# Altium footprint library MolexConnectors.PcbLib: 12 footprints
Each footprint in its own frame and in the unit in brackets; x right, y up, seen from the top. Pads: shape width x height; smd on the part's side, far side on the other; paste and mask are expansions set on the pad; w line width, h text height; cw(c..) or ccw(c..) is an arc to the next point about the centre after c.
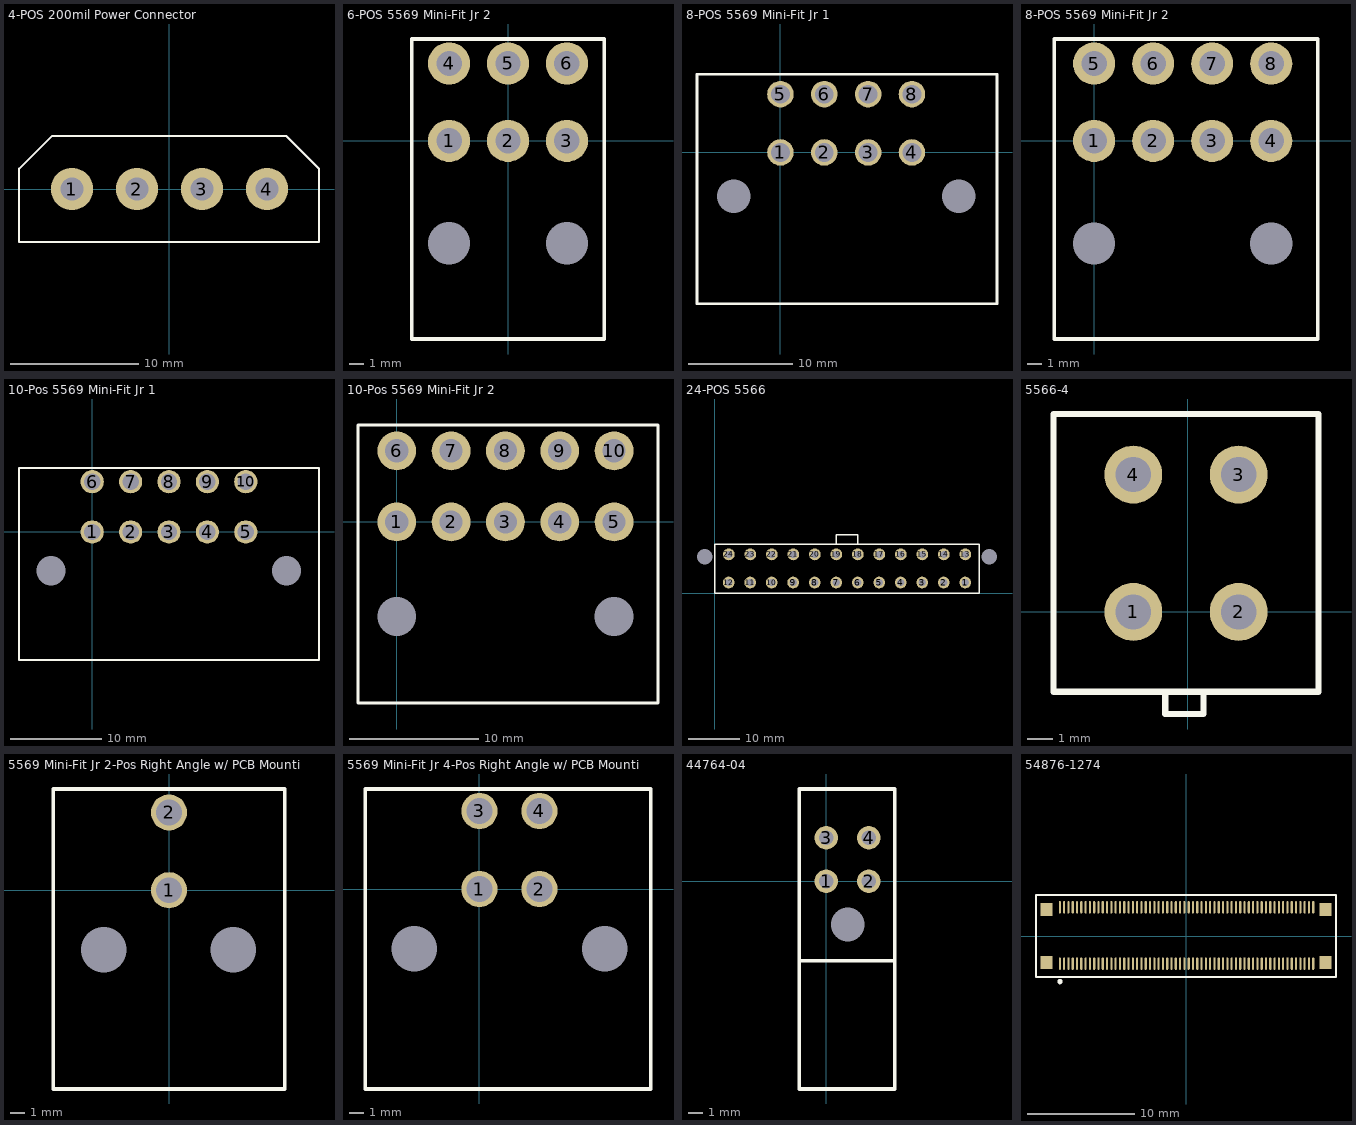
[diagram p0: the footprints below, top view; thin cyan lines are the x and y axes]

## 4-POS 200mil Power Connector [mil]
pads (4):
  round 130 hole 70: 1(-299,0) 2(-99,0) 3(101,0) 4(301,0)
Top Overlay:
  lines w6: -462,63 -462,-163 461,-163 461,63 ; -461,63 -361,163 ; 461,50 461,63 ; -361,163 361,163 ; -361,163 361,163 ; 361,163 461,63
3D body: height 404.33, standoff -83.46, extent -462,-161 460.83,164.98

## 6-POS 5569 Mini-Fit Jr 2 [mm] "Right Angle w/ Press-Fit Pegs"
pads (8):
  round 3 hole 1.8: 1(-4.191,0) 2(0,0) 3(4.191,0) 4(-4.191,5.512) 5(0,5.512) 6(4.191,5.512)
  round 0 hole 3 unplated: ""(-4.191,-7.29) ""(4.191,-7.29)
Top Overlay:
  lines w0.254: -6.858,-14.1 6.858,-14.1 6.858,7.25 -6.858,7.25 -6.858,-14.1
3D body: height 11.4, standoff -3.6, extent -6.883,-14.046 7.317,5.889

## 8-POS 5569 Mini-Fit Jr 1 [mm] "Right Angle w/ PCB Mounting Flange"
pads (10):
  round 2.54 hole 1.8 unplated: 1(0,0) 2(4.2,0) 3(8.4,0) 4(12.6,0) 5(0,5.588) 6(4.2,5.588) 7(8.4,5.588) 8(12.6,5.588)
  round 0 hole 3.2 unplated: ""(-4.475,-4.2) ""(17.1,-4.2)
Top Overlay:
  lines w0.254: -8,-14.5 -8,7.5 20.75,7.5 20.75,-14.5 -8,-14.5
3D body: height 11.4, standoff -3.5, extent -7.65,-13.925 20.35,5.975

## 8-POS 5569 Mini-Fit Jr 2 [mm] "Right Angle w/ Press-Fit Pegs"
pads (10):
  round 3 hole 1.8: 1(0,0) 2(4.2,0) 3(8.4,0) 4(12.6,0) 5(0,5.5) 6(4.2,5.5) 7(8.4,5.5) 8(12.6,5.5)
  round 0 hole 3 unplated: ""(0,-7.3) ""(12.6,-7.3)
Top Overlay:
  lines w0.254: -2.825,-14.1 -2.825,7.25 15.9,7.25 15.9,-14.1 -2.825,-14.1
3D body: height 11.4, standoff -3.6, extent -2.65,-13.95 15.75,5.985

## 10-Pos 5569 Mini-Fit Jr 1 [mm] "Right Angle w/ PCB Mounting Flange"
pads (12):
  round 2.54 hole 1.8 unplated: 1(0,0) 2(4.2,0) 3(8.4,0) 4(12.6,0) 5(16.8,0) 6(0,5.5) 7(4.2,5.5) 8(8.4,5.5) 9(12.6,5.5) 10(16.8,5.5)
  round 0 hole 3.2 unplated: ""(-4.5,-4.25) ""(21.25,-4.25)
Top Overlay:
  lines w0.254: -8,-14 24.8,-14 24.8,7 -8,7 -8,-14
3D body: height 11.4, standoff -3.5, extent -7.7,-13.85 24.5,6.05

## 10-Pos 5569 Mini-Fit Jr 2 [mm] "Right Angle w/ Press-Fit Pegs"
pads (12):
  round 3 hole 1.8: 1(0,0) 2(4.2,0) 3(8.4,0) 4(12.6,0) 5(16.8,0) 6(0,5.5) 7(4.2,5.5) 8(8.4,5.5) 9(12.6,5.5) 10(16.8,5.5)
  round 0 hole 3 unplated: ""(0,-7.3) ""(16.8,-7.3)
Top Overlay:
  lines w0.254: -3,-14 20.2,-14 20.2,7.5 -3,7.5 -3,-14
3D body: height 11.4, standoff -3.6, extent -2.7,-13.868 19.9,6.067

## 24-POS 5566 [mm]
pads (26):
  round 0 hole 3: 0(-2,7.09) 0(53.6,7.09)
  round 2.3 hole 1.4: 1(48.892,2.057) 2(44.692,2.057) 3(40.492,2.057) 4(36.292,2.057) 5(32.092,2.057) 6(27.892,2.057) 7(23.692,2.057) 8(19.492,2.057) 9(15.292,2.057) 10(11.092,2.057) 11(6.892,2.057) 12(2.692,2.057) 13(48.915,7.55) 14(44.715,7.55) 15(40.515,7.55) 16(36.315,7.55) 17(32.115,7.55) 18(27.915,7.55) 19(23.715,7.55) 20(19.515,7.55) 21(15.315,7.55) 22(11.115,7.55) 23(6.915,7.55) 24(2.715,7.55)
Top Overlay:
  lines w0.254: 23.673,9.576 23.673,11.354 27.94,11.354 27.94,9.576 ; 0,0 0,9.576 51.638,9.576 51.638,0 0,0
3D body: height 12.8, standoff -3.5, extent -2.968,-0.152 54.632,10.948

## 5566-4 [mm]
pads (4):
  round 2.3 hole 1.4: 1(-2.159,0) 2(2.032,0) 3(2.032,5.461) 4(-2.159,5.461)
Top Overlay:
  lines w0.254: -0.889,-3.175 -0.889,-4.064 0.635,-4.064 0.635,-3.302 ; -5.334,-3.175 -5.334,7.874 5.207,7.874 5.207,-3.175 -5.334,-3.175
3D body: height 12.8, standoff -3.5, extent -5.334,-3.253 5.066,7.747

## 5569 Mini-Fit Jr 2-Pos Right Angle w/ PCB Mounting Flange [mm] "4.20mm (.165\") Pitch Mini-Fit Jr.™ Header, Dual Row, Right Angle, with PCB Mounting Flange, 2 Circuits, PA Polyamide Nylon 6/6 94V-0, Tin (Sn) Plating"
pads (4):
  round 2.54 hole 1.8 unplated: 1(0,0) 2(0,5.461)
  round 0 hole 3.2 unplated: ""(-4.572,-4.191) ""(4.5,-4.2)
Top Overlay:
  lines w0.254: -8.128,-13.97 8.128,-13.97 8.128,7.112 -8.128,7.112 -8.128,-13.97
3D body: height 11.4, standoff -3.5, extent -7.675,-13.95 7.725,5.95

## 5569 Mini-Fit Jr 4-Pos Right Angle w/ PCB Mounting Flange [mm] "4.20mm (.165\") Pitch Mini-Fit Jr.™ Header, Dual Row, Right Angle, with PCB Mounting Flange, 4 Circuits, PA Polyamide Nylon 6/6 94V-0, Tin (Sn) Plating"
pads (6):
  round 2.54 hole 1.8 unplated: 1(0,0) 2(4.2,0) 3(0,5.461) 4(4.2,5.461)
  round 0 hole 3.2 unplated: ""(-4.572,-4.191) ""(8.763,-4.191)
Top Overlay:
  lines w0.254: -8,-14 12,-14 12,7 -8,7 -8,-14
3D body: height 11.4, standoff -3.5, extent -7.768,-13.931 11.832,5.969

## 44764-04 [mil] "3.00mm (.118\") Pitch Micro-Fit 3.0, BMI (TM) Receptacle Header, Dual Row, Right Angle, with Press-fit Plastic Pegs, 2.54µm (100µ\") Tin (Sn), 4 Circuits"
pads (5):
  round 65 hole 40: 1(0,0) 2(118,0) 3(0,120) 4(118,120)
  round 0 hole 93 unplated: ""(60,-120)
Top Overlay:
  lines w10: -75,-220 190,-220 ; -75,-575 -75,255 190,255 190,-575 -75,-575
3D body: height 406.72, standoff -146.28, extent -74,-573 190,253

## 54876-1274 [mm] "120-Pin (.016\") Pitch Board-to-Board SlimStack(TM) Receptacle"
pads (124):
  oval 0.2x1.15 smd: 1(-11.75,-2.575) 2(-11.35,-2.575) 3(-10.95,-2.575) 4(-10.55,-2.575) 5(-10.15,-2.575) 6(-9.75,-2.575) 7(-9.35,-2.575) 8(-8.95,-2.575) 9(-8.55,-2.575) 10(-8.15,-2.575) 11(-7.75,-2.575) 12(-7.35,-2.575) 13(-6.95,-2.575) 14(-6.55,-2.575) 15(-6.15,-2.575) 16(-5.75,-2.575) 17(-5.35,-2.575) 18(-4.95,-2.575) 19(-4.55,-2.575) 20(-4.15,-2.575) 21(-3.75,-2.575) 22(-3.35,-2.575) 23(-2.95,-2.575) 24(-2.55,-2.575) 25(-2.15,-2.575) 26(-1.75,-2.575) 27(-1.35,-2.575) 28(-0.95,-2.575) 29(-0.55,-2.575) 30(-0.15,-2.575) 31(0.25,-2.575) 32(0.65,-2.575) 33(1.05,-2.575) 34(1.45,-2.575) 35(1.85,-2.575) 36(2.25,-2.575) 37(2.65,-2.575) 38(3.05,-2.575) 39(3.45,-2.575) 40(3.85,-2.575) 41(4.25,-2.575) 42(4.65,-2.575) 43(5.05,-2.575) 44(5.45,-2.575) 45(5.85,-2.575) 46(6.25,-2.575) 47(6.65,-2.575) 48(7.05,-2.575) 49(7.45,-2.575) 50(7.85,-2.575) 51(8.25,-2.575) 52(8.65,-2.575) 53(9.05,-2.575) 54(9.45,-2.575) 55(9.85,-2.575) 56(10.25,-2.575) 57(10.65,-2.575) 58(11.05,-2.575) 59(11.45,-2.575) 60(11.85,-2.575) 61(11.85,2.675) 62(11.45,2.675) 63(11.05,2.675) 64(10.65,2.675) 65(10.25,2.675) 66(9.85,2.675) 67(9.45,2.675) 68(9.05,2.675) 69(8.65,2.675) 70(8.25,2.675) 71(7.85,2.675) 72(7.45,2.675) 73(7.05,2.675) 74(6.65,2.675) 75(6.25,2.675) 76(5.85,2.675) 77(5.45,2.675) 78(5.05,2.675) 79(4.65,2.675) 80(4.25,2.675) 81(3.85,2.675) 82(3.45,2.675) 83(3.05,2.675) 84(2.65,2.675) 85(2.25,2.675) 86(1.85,2.675) 87(1.45,2.675) 88(1.05,2.675) 89(0.65,2.675) 90(0.25,2.675) 91(-0.15,2.675) 92(-0.55,2.675) 93(-0.95,2.675) 94(-1.35,2.675) 95(-1.75,2.675) 96(-2.15,2.675) 97(-2.55,2.675) 98(-2.95,2.675) 99(-3.35,2.675) 100(-3.75,2.675) 101(-4.15,2.675) 102(-4.55,2.675) 103(-4.95,2.675) 104(-5.35,2.675) 105(-5.75,2.675) 106(-6.15,2.675) 107(-6.55,2.675) 108(-6.95,2.675) 109(-7.35,2.675) 110(-7.75,2.675) 111(-8.15,2.675) 112(-8.55,2.675) 113(-8.95,2.675) 114(-9.35,2.675) 115(-9.75,2.675) 116(-10.15,2.675) 117(-10.55,2.675) 118(-10.95,2.675) 119(-11.35,2.675) 120(-11.75,2.675)
  rect 1.1x1.21 smd: ""(-13,-2.45) ""(-13,2.45) ""(13,-2.45) ""(13,2.45)
Top Overlay:
  circle w0.254: c-11.735,-4.242 r0.127
  lines w0.203: -13.97,-3.81 13.97,-3.81 13.97,3.81 -13.97,3.81 -13.97,-3.81